# Altium footprint library PcbLib1.PcbLib: 10 footprints
Each footprint in its own frame and in the unit in brackets; x right, y up, seen from the top. Pads: shape width x height; smd on the part's side, far side on the other; paste and mask are expansions set on the pad; w line width, h text height; cw(c..) or ccw(c..) is an arc to the next point about the centre after c.
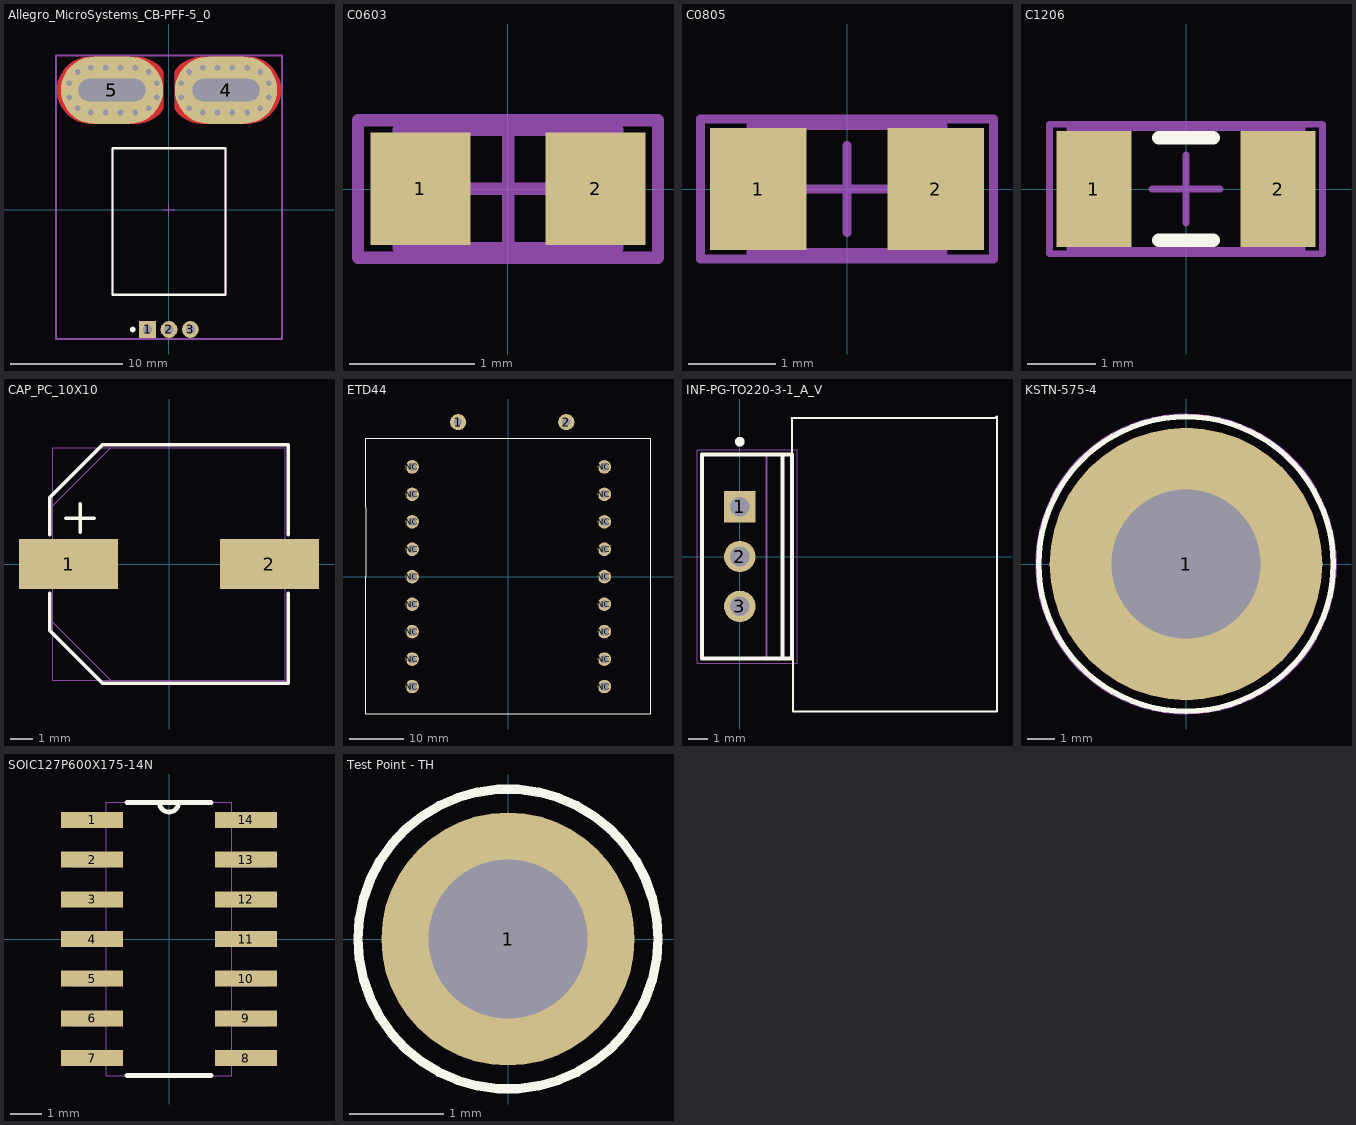
[diagram p0: the footprints below, top view; thin cyan lines are the x and y axes]

## Allegro_MicroSystems_CB-PFF-5_0 [mm]
pads (7):
  rect 1.5x1.5 hole 0.8 paste-1000 mask+0: 1(-1.91,-10.7)
  round 1.5 hole 0.8 paste-1000 mask+0: 2(0,-10.7) 3(1.91,-10.7)
  oval 9.144x6.02 hole 2 slot 5.994 at 0 deg paste-1000 mask+0: 4(5.099,10.7) 5(-5.099,10.7)
  round 5.4 smd far side paste-1000 mask+0: 4(5.099,10.7) 5(-5.099,10.7)
via 8.176,12.318 diameter 0.8 hole 0.5
via 8.902,11.318 diameter 0.8 hole 0.5
via 8.902,10.082 diameter 0.8 hole 0.5
via 8.176,9.082 diameter 0.8 hole 0.5
via 1.824,9.082 diameter 0.8 hole 0.5
via 1.098,10.082 diameter 0.8 hole 0.5
via 1.098,11.318 diameter 0.8 hole 0.5
via 1.824,12.318 diameter 0.8 hole 0.5
via -1.824,12.318 diameter 0.8 hole 0.5
via -1.098,11.318 diameter 0.8 hole 0.5
via -1.098,10.082 diameter 0.8 hole 0.5
via -1.824,9.082 diameter 0.8 hole 0.5
via -8.176,9.082 diameter 0.8 hole 0.5
via -8.902,10.082 diameter 0.8 hole 0.5
via -8.902,11.318 diameter 0.8 hole 0.5
via -8.176,12.318 diameter 0.8 hole 0.5
via 3,12.7 diameter 0.8 hole 0.5
via 4.333,12.7 diameter 0.8 hole 0.5
via 5.667,12.7 diameter 0.8 hole 0.5
via 7,12.7 diameter 0.8 hole 0.5
via 7,8.7 diameter 0.8 hole 0.5
via 5.667,8.7 diameter 0.8 hole 0.5
via 4.333,8.7 diameter 0.8 hole 0.5
via 3,8.7 diameter 0.8 hole 0.5
via -3,8.7 diameter 0.8 hole 0.5
via -4.333,8.7 diameter 0.8 hole 0.5
via -5.667,8.7 diameter 0.8 hole 0.5
via -7,8.7 diameter 0.8 hole 0.5
via -3,12.7 diameter 0.8 hole 0.5
via -4.333,12.7 diameter 0.8 hole 0.5
via -5.667,12.7 diameter 0.8 hole 0.5
via -7,12.7 diameter 0.8 hole 0.5
Top Layer:
  region: 0.5,12.358 0.602,12.512 0.843,12.793 1.116,13.042 1.418,13.256 1.744,13.431 2.089,13.564 2.448,13.655 2.815,13.7 3,13.7 7,13.7 7.236,13.7 7.703,13.626 8.152,13.48 8.572,13.266 8.954,12.988 9.288,12.654 9.566,12.272 9.78,11.852 9.926,11.402 10,10.936 10,10.464 9.926,9.997 9.78,9.548 9.566,9.128 9.288,8.746 8.954,8.412 8.572,8.134 8.152,7.92 7.703,7.774 7.236,7.7 7,7.7 3,7.7 2.815,7.7 2.448,7.745 2.089,7.836 1.744,7.969 1.418,8.144 1.116,8.358 0.843,8.607 0.602,8.888 0.5,9.042
  region: -0.5,9.042 -0.602,8.888 -0.843,8.607 -1.116,8.358 -1.418,8.144 -1.744,7.969 -2.089,7.836 -2.448,7.745 -2.815,7.7 -3,7.7 -7,7.7 -7.236,7.7 -7.703,7.774 -8.152,7.92 -8.572,8.134 -8.954,8.412 -9.288,8.746 -9.566,9.128 -9.78,9.548 -9.926,9.997 -10,10.464 -10,10.936 -9.926,11.402 -9.78,11.852 -9.566,12.272 -9.288,12.654 -8.954,12.988 -8.572,13.266 -8.152,13.48 -7.703,13.626 -7.236,13.7 -7,13.7 -3,13.7 -2.815,13.7 -2.448,13.655 -2.089,13.564 -1.744,13.431 -1.418,13.256 -1.116,13.042 -0.843,12.793 -0.602,12.512 -0.5,12.358
Bottom Layer:
  region: 0.5,12.358 0.602,12.512 0.843,12.793 1.116,13.042 1.418,13.256 1.744,13.431 2.089,13.564 2.448,13.655 2.815,13.7 3,13.7 7,13.7 7.236,13.7 7.703,13.626 8.152,13.48 8.572,13.266 8.954,12.988 9.288,12.654 9.566,12.272 9.78,11.852 9.926,11.402 10,10.936 10,10.464 9.926,9.997 9.78,9.548 9.566,9.128 9.288,8.746 8.954,8.412 8.572,8.134 8.152,7.92 7.703,7.774 7.236,7.7 7,7.7 3,7.7 2.815,7.7 2.448,7.745 2.089,7.836 1.744,7.969 1.418,8.144 1.116,8.358 0.843,8.607 0.602,8.888 0.5,9.042
  region: -0.5,9.042 -0.602,8.888 -0.843,8.607 -1.116,8.358 -1.418,8.144 -1.744,7.969 -2.089,7.836 -2.448,7.745 -2.815,7.7 -3,7.7 -7,7.7 -7.236,7.7 -7.703,7.774 -8.152,7.92 -8.572,8.134 -8.954,8.412 -9.288,8.746 -9.566,9.128 -9.78,9.548 -9.926,9.997 -10,10.464 -10,10.936 -9.926,11.402 -9.78,11.852 -9.566,12.272 -9.288,12.654 -8.954,12.988 -8.572,13.266 -8.152,13.48 -7.703,13.626 -7.236,13.7 -7,13.7 -3,13.7 -2.815,13.7 -2.448,13.655 -2.089,13.564 -1.744,13.431 -1.418,13.256 -1.116,13.042 -0.843,12.793 -0.602,12.512 -0.5,12.358
Top Overlay:
  circle w0.25: c-3.25,-10.7 r0.125
  lines w0.2: -5.05,-7.6 -5.05,5.5 5.05,5.5 5.05,-7.6 -5.05,-7.6
Mechanical 10:
  lines w0.2: -10.1,-11.55 -10.1,13.8 10.1,13.8 10.1,-11.55 -10.1,-11.55
  text ".Designator" at 0,1.125 h1
Mechanical 12:
  lines w0.15: -5.05,-7.6 -5.05,5.5 5.05,5.5 5.05,-7.6 -5.05,-7.6
Mechanical 15:
  lines w0.1: -0.5,0 0.5,0 ; 0,-0.5 0,0.5
  lines w0.2: -10.1,-11.55 -10.1,13.8 10.1,13.8 10.1,-11.55 -10.1,-11.55
3D body "IC_Allegro_MicroSystems_ACS770KCB-150B-PFF-T_eec.STEP": height 0.25, standoff 0, extent -10.1,-11.55 10.1,13.8

## C0603 [mm] "Chip Capacitor, Body 1.6x0.8mm, IPC High Density"
height 1.3
pads (2):
  rect 0.8x0.9 smd: 1(-0.7,0) 2(0.7,0)
Mechanical 29 Assembly drawing:
  lines w0.1: -0.875,-0.475 0.875,-0.475 0.875,0.475 -0.875,0.475 -0.875,-0.475
Mechanical 15:
  lines w0.1: -0.475,0 0.475,0 ; 0,-0.475 0,0.475 ; -1.2,-0.55 1.2,-0.55 1.2,0.55 -1.2,0.55 -1.2,-0.55
3D body: height 1.3, standoff 0, extent -0.875,-0.475 0.875,0.475

## C0805 [mm] "Chip Capacitor, Body 2.0x1.3mm, IPC High Density"
height 1.4
pads (2):
  rect 1.1x1.4 smd: 1(-1.016,0) 2(1.016,0)
Mechanical 29 Assembly drawing:
  lines w0.1: -1.1,-0.725 1.1,-0.725 1.1,0.725 -1.1,0.725 -1.1,-0.725
Mechanical 15:
  lines w0.1: -0.5,0 0.5,0 ; 0,-0.5 0,0.5 ; -1.676,-0.8 1.676,-0.8 1.676,0.8 -1.676,0.8 -1.676,-0.8
3D body: height 1.4, standoff 0, extent -1.1,-0.725 1.1,0.725

## C1206 [mm] "Chip Capacitor, Body 3.2x1.6mm, IPC High Density"
height 1.3
pads (2):
  rect 1.1x1.7 smd: 1(-1.35,0) 2(1.35,0)
Top Overlay:
  lines w0.2: -0.4,-0.75 0.4,-0.75 ; -0.4,0.75 0.4,0.75
Mechanical 29 Assembly drawing:
  lines w0.1: -1.7,-0.9 -1.7,0.9 1.7,0.9 1.7,-0.9 -1.7,-0.9
Mechanical 15:
  lines w0.1: -0.5,0 0.5,0 ; 0,-0.5 0,0.5 ; -2,-0.95 -2,0.95 2,0.95 2,-0.95 -2,-0.95
3D body: height 1.3, standoff 0, extent -1.7,-0.9 1.7,0.9

## CAP_PC_10X10 [mil]
pads (2):
  rect 173x87 smd paste+0 mask+0: 1(-175,0) 2(175,0)
Top Overlay:
  lines w6: -208,-50.6 -208,-116 -116,-208 208,-208 208,-50.6 ; -208,50.6 -208,116 -116,208 208,208 208,50.6 ; -180,80 -130,80 ; -155,55 -155,105
Assembly drawing:
  lines w1: -203,-101.5 -101.5,-203 ; -203,101.5 -101.5,203 ; -203,-203 203,-203 203,203 -203,203 -203,-203
  text "'.Designator'" at -174,-12.01 h60
3D body: height 10, standoff 0, extent 0,0 10,10
3D body "A767MU476M1KLAE040.step": height 506.24, standoff -1.83, extent -228,-207 228.69,206.39

## ETD44 [mm]
pads (20):
  round 3 hole 1.5: 1(-9.271,28.6) 2(10.729,28.6)
  round 2.5 hole 1.6: NC(-17.78,-20.32) NC(-17.78,-15.24) NC(-17.78,-10.16) NC(-17.78,-5.08) NC(-17.78,0) NC(-17.78,5.08) NC(-17.78,10.16) NC(-17.78,15.24) NC(-17.78,20.32) NC(17.78,-20.32) NC(17.78,-15.24) NC(17.78,-10.16) NC(17.78,-5.08) NC(17.78,0) NC(17.78,5.08) NC(17.78,10.16) NC(17.78,15.24) NC(17.78,20.32)
Top Layer:
  lines w0.254: -16.866,-20.396 -16.662,-20.396
Top Overlay:
  lines w0.2: -26.467,25.654 -26.356,0 -26.356,-25.4 26.365,-25.4 26.365,25.654 -26.467,25.654
3D body "User Library-ETD44.STEP": height 38.11, standoff -4.49, extent -25.5,-24.8 25.5,24.8

## INF-PG-TO220-3-1_A_V [mm] "FM, 3-Leads, Body 10.03x8.98mm, Pitch 2.54mm"
height 20.75
pads (3):
  rect 1.6x1.6 hole 1: 1(0,2.54)
  round 1.6 hole 1: 2(0,0) 3(0,-2.54)
Top Overlay:
  circle w0.25: c0,5.85 r0.125
  lines w0.1: 2.67,5.2 2.67,7.033 2.642,7.061 13.03,7.061 13.106,7.137 13.106,-7.899 2.718,-7.899 2.718,-5.248
  lines w0.2: 2.17,-5.2 2.17,5.2 ; -1.93,-5.2 -1.93,5.2 2.67,5.2 2.67,-5.2 -1.93,-5.2
Mechanical 29 Assembly drawing:
  lines w0.1: 1.37,-5.2 1.37,5.2 ; -1.93,-5.2 2.67,-5.2 2.67,5.2 -1.93,5.2 -1.93,-5.2
Mechanical 15:
  lines w0.05: -2.18,-5.45 2.92,-5.45 2.92,5.45 -2.18,5.45 -2.18,-5.45
  lines w0.1: -0.5,0 0.5,0 ; 0,-0.5 0,0.5
3D body: height 20.75, standoff 19.83, extent 1.37,-5.025 2.67,5.025
3D body: height 18.32, standoff 17.95, extent 1.37,-5.025 2.67,-1.875
3D body: height 18.32, standoff 17.95, extent 1.37,1.875 2.67,5.025
3D body: height 17.95, standoff 17.58, extent 1.37,-5.025 2.67,-1.875
3D body: height 17.95, standoff 17.58, extent 1.37,1.875 2.67,5.025
3D body: height 18.67, standoff 18.32, extent 1.37,-5.025 2.67,-1.839
3D body: height 18.67, standoff 18.32, extent 1.37,1.839 2.67,5.025
3D body: height 17.59, standoff 17.23, extent 1.37,-5.025 2.67,-1.839
3D body: height 17.59, standoff 17.23, extent 1.37,1.839 2.67,5.025
3D body: height 19, standoff 18.67, extent 1.37,-5.025 2.67,-1.732
3D body: height 19, standoff 18.67, extent 1.37,1.732 2.67,5.025
3D body: height 17.24, standoff 16.91, extent 1.37,-5.025 2.67,-1.732
3D body: height 17.24, standoff 16.91, extent 1.37,1.732 2.67,5.025
3D body: height 19.28, standoff 18.99, extent 1.37,-5.025 2.67,-1.559
3D body: height 19.28, standoff 18.99, extent 1.37,1.559 2.67,5.025
3D body: height 16.91, standoff 16.62, extent 1.37,-5.025 2.67,-1.559
3D body: height 16.91, standoff 16.62, extent 1.37,1.559 2.67,5.025
3D body: height 19.51, standoff 19.28, extent 1.37,-5.025 2.67,-1.326
3D body: height 19.51, standoff 19.28, extent 1.37,1.326 2.67,5.025
3D body: height 16.63, standoff 16.39, extent 1.37,-5.025 2.67,-1.326
3D body: height 16.63, standoff 16.39, extent 1.37,1.326 2.67,5.025
3D body: height 19.69, standoff 19.51, extent 1.37,-5.025 2.67,-1.042
3D body: height 19.69, standoff 19.51, extent 1.37,1.042 2.67,5.025
3D body: height 16.4, standoff 16.22, extent 1.37,-5.025 2.67,-1.042
3D body: height 16.4, standoff 16.22, extent 1.37,1.042 2.67,5.025
3D body: height 19.79, standoff 19.68, extent 1.37,-5.025 2.67,-0.718
3D body: height 19.79, standoff 19.68, extent 1.37,0.718 2.67,5.025
3D body: height 16.22, standoff 16.11, extent 1.37,-5.025 2.67,-0.718
3D body: height 16.22, standoff 16.11, extent 1.37,0.718 2.67,5.025
3D body: height 19.83, standoff 19.79, extent 1.37,-5.025 2.67,-0.366
3D body: height 19.83, standoff 19.79, extent 1.37,0.366 2.67,5.025
3D body: height 16.12, standoff 16.08, extent 1.37,-5.025 2.67,-0.366
3D body: height 16.12, standoff 16.08, extent 1.37,0.366 2.67,5.025
3D body: height 16.08, standoff 14.35, extent 1.37,-5.025 2.67,5.025
3D body: height 14.35, standoff 4.8, extent -1.93,-5.2 2.67,5.2
3D body: height 0, standoff -1.6, extent -0.235,-2.92 0.235,-2.16
3D body: height 4.8, standoff 0, extent -0.235,-3.13 0.235,-1.95
3D body: height 0, standoff -1.6, extent -0.235,-0.38 0.235,0.38
3D body: height 4.8, standoff 0, extent -0.235,-0.59 0.235,0.59
3D body: height 0, standoff -1.6, extent -0.235,2.16 0.235,2.92
3D body: height 4.8, standoff 0, extent -0.235,1.95 0.235,3.13
3D body "ALSRobot-Heatsink TO220.STEP": height 23.52, standoff 4.47, extent 2.667,-7.847 13.033,7.035

## KSTN-575-4 [mm] "Banana Jack, Non-Insulated, Dia 7.92mm"
height 7.86
pads (1):
  round 10 hole 5.45: 1(0,0)
Top Overlay:
  circle w0.2: c0,0 r5.4
Bottom Overlay:
  circle w0.2: c0,0 r5.4
Mechanical 29 Assembly drawing:
  circle w0.1: c-0.031,-0.008 r2.095
  circle w0.1: c-0.031,-0.008 r3.96
Mechanical 15:
  circle w0.05: c0,0 r5.5
  lines w0.1: -0.5,0 0.5,0 ; 0,-0.5 0,0.5
3D body "Keystone_575-4.stp": height 2.36, standoff -5.5, extent -3.981,-3.957 3.919,3.941

## SOIC127P600X175-14N [mil]
pads (14):
  rect 78x20 smd: 1(-97,150) 2(-97,100) 3(-97,50) 4(-97,0) 5(-97,-50) 6(-97,-100) 7(-97,-150) 8(97,-150) 9(97,-100) 10(97,-50) 11(97,0) 12(97,50) 13(97,100) 14(97,150)
Top Overlay:
  lines w6: -53,-172 53,-172 ; -53,172 -12,172 ; 53,172 12,172 ; -12,172 ccw(c0,172) 12,172 ; -12,172 12,172
Mechanical 29 Assembly drawing:
  lines w0: -12,172 ccw(c0,172) 12,172 ; -12,172 -79,172 -79,-172 79,-172 79,172 12,172 ; -12,172 12,172 ; -122,-159 -79,-159 -79,-141 -122,-141 -122,-159 ; -122,-109 -79,-109 -79,-91 -122,-91 -122,-109 ; -122,-59 -79,-59 -79,-41 -122,-41 -122,-59 ; -122,-9 -79,-9 -79,9 -122,9 -122,-9 ; -122,41 -79,41 -79,59 -122,59 -122,41 ; -122,91 -79,91 -79,109 -122,109 -122,91 ; -122,141 -79,141 -79,159 -122,159 -122,141 ; 79,-159 122,-159 122,-141 79,-141 79,-159 ; 79,-109 122,-109 122,-91 79,-91 79,-109 ; 79,-59 122,-59 122,-41 79,-41 79,-59 ; 79,-9 122,-9 122,9 79,9 79,-9 ; 79,41 122,41 122,59 79,59 79,41 ; 79,91 122,91 122,109 79,109 79,91 ; 79,141 122,141 122,159 79,159 79,141
3D body "SOIC14 narrow.stp": height 78.74, standoff 0.13, extent -121.32,-173.42 121.32,173.43

## Test Point - TH [mm] "TH Test Point"
height 10
pads (1):
  round 2.7 hole 1.7: 1(0,0)
Top Overlay:
  circle w0.1: c0,0 r1.6